# Altium footprint library PcbLib1.PcbLib: 18 footprints (part 2 of 2)
Each footprint in its own frame and in the unit in brackets; x right, y up, seen from the top. Pads: shape width x height; smd on the part's side, far side on the other; paste and mask are expansions set on the pad; w line width, h text height; cw(c..) or ccw(c..) is an arc to the next point about the centre after c.
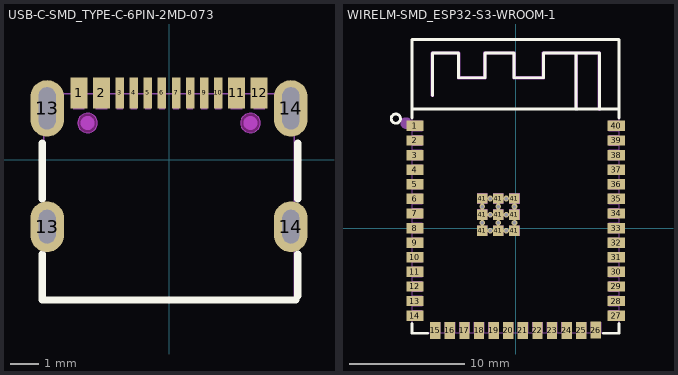
[diagram p1: the footprints below, top view; thin cyan lines are the x and y axes]

## USB-C-SMD_TYPE-C-6PIN-2MD-073 [mm]
pads (16):
  rect 0.6x1.1 smd paste-100 mask+0.05: 1(-3.2,2.375) 2(-2.4,2.375) 11(2.4,2.375) 12(3.2,2.375)
  rect 0.3x1.1 smd paste-100 mask+0.05: 3(-1.75,2.375) 4(-1.25,2.375) 5(-0.75,2.375) 6(-0.25,2.375) 7(0.25,2.375) 8(0.75,2.375) 9(1.25,2.375) 10(1.75,2.375)
  oval 1.2x1.8 hole 0.6 slot 1.2 at 90 deg paste+0 mask+0.05: 13(-4.325,-2.375) 14(4.325,-2.375)
  oval 1.2x2 hole 0.6 slot 1.5 at 90 deg paste+0 mask+0.05: 13(-4.325,1.825) 14(4.325,1.825)
Top Overlay:
  lines w0.254: -4.5,-3.356 -4.5,-4.975 4.5,-4.975 ; -4.5,-1.394 -4.5,0.594 ; 4.572,-4.826 4.572,-3.353 ; 4.572,-1.397 4.572,0.597
Top Paste:
  drawing of 16 lines, arcs and shapes, not listed
Keep-Out Layer:
  board cut-out: 3.24,1.305 3.24,1.375 3.187,1.503 3.088,1.602 2.96,1.655 2.821,1.655 2.692,1.602 2.593,1.503 2.54,1.375 2.54,1.305 2.54,1.235 2.593,1.107 2.692,1.008 2.821,0.955 2.96,0.955 3.088,1.008 3.187,1.107 3.24,1.235 3.24,1.305
  board cut-out: -2.54,1.305 -2.54,1.375 -2.593,1.503 -2.692,1.602 -2.82,1.655 -2.96,1.655 -3.088,1.602 -3.187,1.503 -3.24,1.375 -3.24,1.305 -3.24,1.235 -3.187,1.107 -3.088,1.008 -2.96,0.955 -2.82,0.955 -2.692,1.008 -2.593,1.107 -2.54,1.235 -2.54,1.305
Mechanical 1:
  circle w0.005: c2.89,1.305 r0.35
  circle w0.005: c-2.89,1.305 r0.35
Mechanical 6:
  circle w0.25: c2.89,1.305 r0.125
  circle w0.25: c-2.89,1.305 r0.125
Mechanical 15:
  region: 4.2,-2.025 4.45,-2.025 4.45,-2.725 4.2,-2.725
  region: -4.45,-2.025 -4.2,-2.025 -4.2,-2.725 -4.45,-2.725
  region: 4.2,2.349 4.45,2.349 4.45,1.249 4.2,1.249
  region: -4.45,2.349 -4.2,2.349 -4.2,1.249 -4.45,1.249
  region: 3,2.649 3.4,2.649 3.4,1.799 3,1.799
  region: 2.2,2.649 2.6,2.649 2.6,1.799 2.2,1.799
  region: -2.6,2.649 -2.2,2.649 -2.2,1.799 -2.6,1.799
  region: -3.4,2.649 -3,2.649 -3,1.799 -3.4,1.799
  region: 1.65,2.649 1.85,2.649 1.85,1.799 1.65,1.799
  region: 1.15,2.649 1.35,2.649 1.35,1.799 1.15,1.799
  region: 0.65,2.649 0.85,2.649 0.85,1.799 0.65,1.799
  region: 0.15,2.649 0.35,2.649 0.35,1.799 0.15,1.799
  region: -0.35,2.649 -0.15,2.649 -0.15,1.799 -0.35,1.799
  region: -1.35,2.649 -1.15,2.649 -1.15,1.799 -1.35,1.799
  region: -0.85,2.649 -0.65,2.649 -0.65,1.799 -0.85,1.799
  region: -1.85,2.649 -1.65,2.649 -1.65,1.799 -1.85,1.799
  region: -4.39,2.649 -4.39,2.674 -4.425,2.709 -4.475,2.709 -4.51,2.674 -4.51,2.649 -4.51,2.624 -4.475,2.589 -4.425,2.589 -4.39,2.624 -4.39,2.649
  lines w0.051: -4.45,-5.001 4.45,-5.001 4.45,2.349 -4.45,2.349 -4.45,-5.001
3D body "tppe-C-12P.step": height 3.26, standoff -0.9, extent -4.47,-4.953 4.47,2.627

## WIRELM-SMD_ESP32-S3-WROOM-1 [mm]
pads (49):
  rect 1.5x0.9 smd paste+0 mask+0.05: 1(-8.75,8.895) 2(-8.75,7.625) 3(-8.75,6.355) 4(-8.75,5.085) 5(-8.75,3.815) 6(-8.75,2.545) 7(-8.75,1.275) 8(-8.75,0.005) 9(-8.75,-1.265) 10(-8.75,-2.535) 11(-8.75,-3.805) 12(-8.75,-5.075) 13(-8.75,-6.345) 14(-8.75,-7.615) 27(8.75,-7.615) 28(8.75,-6.345) 29(8.75,-5.075) 30(8.75,-3.805) 31(8.75,-2.535) 32(8.75,-1.265) 33(8.75,0.005) 34(8.75,1.275) 35(8.75,2.545) 36(8.75,3.815) 37(8.75,5.085) 38(8.75,6.355) 39(8.75,7.625) 40(8.75,8.895)
  rect 0.9x1.5 smd paste+0 mask+0.05: 15(-6.985,-8.895) 16(-5.715,-8.895) 17(-4.445,-8.895) 18(-3.175,-8.895) 19(-1.905,-8.895) 20(-0.635,-8.895) 21(0.635,-8.895) 22(1.905,-8.895) 23(3.175,-8.895) 24(4.445,-8.895) 25(5.715,-8.895) 26(6.985,-8.865)
  rect 0.9x0.9 smd: 41(-2.9,-0.225) 41(-2.9,1.175) 41(-2.9,2.575) 41(-1.5,-0.225) 41(-1.5,1.175) 41(-1.5,2.575) 41(-0.1,-0.225) 41(-0.1,1.175) 41(-0.1,2.575)
via -1.5,1.875 diameter 0.5 hole 0.3
via -1.5,0.475 diameter 0.5 hole 0.3
via -2.2,2.575 diameter 0.5 hole 0.3
via -2.9,1.875 diameter 0.5 hole 0.3
via -2.9,0.475 diameter 0.5 hole 0.3
via -0.1,0.475 diameter 0.5 hole 0.3
via -0.1,1.875 diameter 0.5 hole 0.3
via -0.8,2.575 diameter 0.5 hole 0.3
via -0.8,1.175 diameter 0.5 hole 0.3
via -2.2,1.175 diameter 0.5 hole 0.3
via -2.2,-0.225 diameter 0.5 hole 0.3
via -0.8,-0.225 diameter 0.5 hole 0.3
Top Overlay:
  circle w0.254: c-10.414,9.525 r0.402
  lines w0.254: -9,-8.296 -9,-9.144 -7.666,-9.144 ; -9,9.576 -9,16.395 9,16.395 ; -9,10.355 9.017,10.355 ; -7.239,11.557 -7.239,15.24 -4.953,15.24 -4.953,13.081 -2.667,13.081 -2.667,15.24 -0.127,15.24 -0.127,13.081 2.413,13.081 2.413,15.24 5.265,15.24 5.265,10.355 ; 5.062,15.24 7.297,15.24 7.297,10.355 ; 7.666,-9.144 9.017,-9.144 9.017,-8.296 ; 9.017,9.576 9.017,16.383
Mechanical 6:
  drawing of 2 lines, arcs and shapes, not listed
Mechanical 15:
  drawing of 54 lines, arcs and shapes, not listed
3D body "esp32.step": height 3.11, standoff 0, extent -9.017,-9.067 8.985,16.434